# EAGLE library part MICRO_USB_AB_FEMALE (library ihpcb-usb)
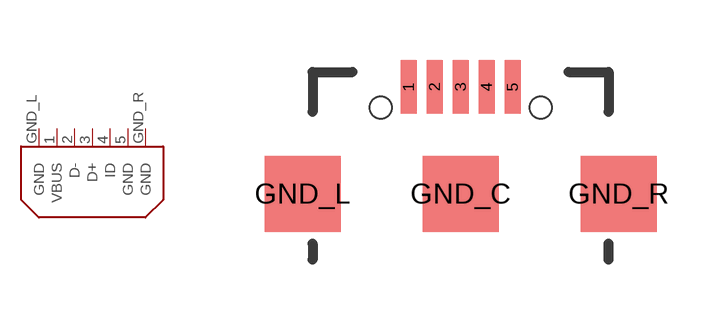
[diagram p0: symbol with the pads of MICRO_USB_5P_FEMALE_AB_TYPE; footprint MICRO_USB_5P_FEMALE_AB_TYPE]

Designator prefix -

## MICRO_USB_AB_FEMALE  [MICRO_USB_5P_FEMALE_AB_TYPE]
1  VBUS
2  D-
3  D+
4  ID
5  GND
GND_L  GND
GND_R  GND

## Footprint MICRO_USB_5P_FEMALE_AB_TYPE (pad centres in mm)
smd 0.4 x 1.35: 1 -1.3,4.125; 2 -0.65,4.125; 3 0,4.125; 4 0.65,4.125; 5 1.3,4.125
smd 1.9 x 1.9: GND_C 0,1.45; GND_L -3.95,1.45; GND_R 3.95,1.45
hole 0.55 at 2,3.6
hole 0.55 at -2,3.6